# EAGLE library part 74*04 (library kmod-ics)
Hex INVERTER
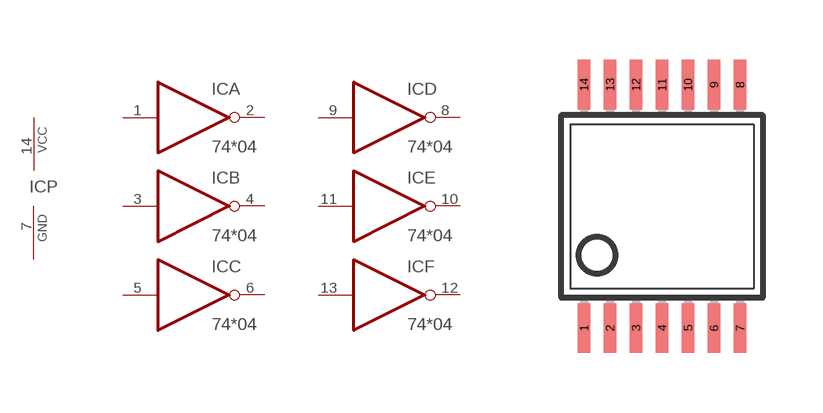
[diagram p4: symbol with the pads of TSSOP14; footprint TSSOP14]

Designator prefix IC; gates A=7404 B=7404 C=7404 D=7404 E=7404 F=7404 P=PWRN

## 7404TSSOP14  [TSSOP14]
1  A:I  in
2  A:O  out
3  B:I  in
4  B:O  out
5  C:I  in
6  C:O  out
7  P:GND  pwr
8  D:O  out
9  D:I  in
10  E:O  out
11  E:I  in
12  F:O  out
13  F:I  in
14  P:VCC  pwr

## Footprint TSSOP14 (pad centres in mm)
Thin Shrink Small Outline Plastic 14, 4.40mm width Forget where I copied from, but seems to work well. Could maybe make pads longer for easier hand-soldering. - ok made them longer by 10mil (0.25mm); they now stick past the end by about 0.5mm
smd 0.305 x 1.245: 1 -1.95,-3.045; 2 -1.3,-3.045; 3 -0.65,-3.045; 4 0,-3.045; 5 0.65,-3.045; 6 1.3,-3.045; 7 1.95,-3.045; 8 1.95,3.045; 9 1.3,3.045; 10 0.65,3.045; 11 0,3.045; 12 -0.65,3.045; 13 -1.3,3.045; 14 -1.95,3.045